# EAGLE library part MODULE_WIFI-RN-171 (library seeedstudio-rn171)
WIFLY GSX 802.11 b/g wireless LAN Module
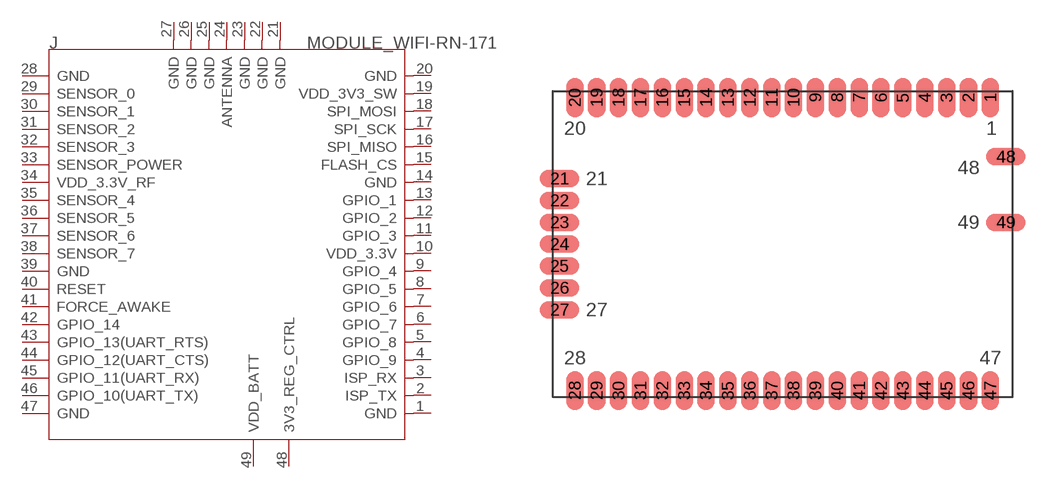
[diagram p0: symbol with the pads of MODULE_49P-1.27-26.67X17.78; footprint MODULE_49P-1.27-26.67X17.78]

Designator prefix J

## MODULE_WIFI-RN-171  [MODULE_49P-1.27-26.67X17.78]
1  GND  sup
2  ISP_TX
3  ISP_RX
4  GPIO_9
5  GPIO_8
6  GPIO_7
7  GPIO_6
8  GPIO_5
9  GPIO_4
10  VDD_3.3V  sup
11  GPIO_3
12  GPIO_2
13  GPIO_1
14  GND  sup
15  FLASH_CS
16  SPI_MISO
17  SPI_SCK
18  SPI_MOSI
19  VDD_3V3_SW
20  GND  sup
21  GND  sup
22  GND  sup
23  GND  sup
24  ANTENNA
25  GND  sup
26  GND  sup
27  GND  sup
28  GND  sup
29  SENSOR_0  in
30  SENSOR_1  in
31  SENSOR_2  in
32  SENSOR_3  in
33  SENSOR_POWER  out
34  VDD_3.3V_RF  sup
35  SENSOR_4  in
36  SENSOR_5  in
37  SENSOR_6  in
38  SENSOR_7  in
39  GND  sup
40  RESET  in
41  FORCE_AWAKE
42  GPIO_14
43  GPIO_13(UART_RTS)
44  GPIO_12(UART_CTS)
45  GPIO_11(UART_RX)
46  GPIO_10(UART_TX)
47  GND  sup
48  3V3_REG_CTRL  in
49  VDD_BATT

## Footprint MODULE_49P-1.27-26.67X17.78 (pad centres in mm)
smd 1.016 x 2.286: 1 12.065,8.509; 2 10.795,8.509; 3 9.525,8.509; 4 8.255,8.509; 5 6.985,8.509; 6 5.715,8.509; 7 4.445,8.509; 8 3.175,8.509; 9 1.905,8.509; 10 0.635,8.509; 11 -0.635,8.509; 12 -1.905,8.509; 13 -3.175,8.509; 14 -4.445,8.509; 15 -5.715,8.509; 16 -6.985,8.509; 17 -8.255,8.509; 18 -9.525,8.509; 19 -10.795,8.509; 20 -12.065,8.509; 28 -12.065,-8.509; 29 -10.795,-8.509; 30 -9.525,-8.509; 31 -8.255,-8.509; 32 -6.985,-8.509; 33 -5.715,-8.509; 34 -4.445,-8.509; 35 -3.175,-8.509; 36 -1.905,-8.509; 37 -0.635,-8.509; 38 0.635,-8.509; 39 1.905,-8.509; 40 3.175,-8.509; 41 4.445,-8.509; 42 5.715,-8.509; 43 6.985,-8.509; 44 8.255,-8.509; 45 9.525,-8.509; 46 10.795,-8.509; 47 12.065,-8.509
smd 2.286 x 1.016: 21 -12.954,3.81; 22 -12.954,2.54; 23 -12.954,1.27; 24 -12.954,0; 25 -12.954,-1.27; 26 -12.954,-2.54; 27 -12.954,-3.81; 48 12.954,5.08; 49 12.954,1.27